# Altium footprint library WS-DESV.PcbLib: 1 footprints
Each footprint in its own frame and in the unit in brackets; x right, y up, seen from the top. Pads: shape width x height; smd on the part's side, far side on the other; paste and mask are expansions set on the pad; w line width, h text height; cw(c..) or ccw(c..) is an arc to the next point about the centre after c.
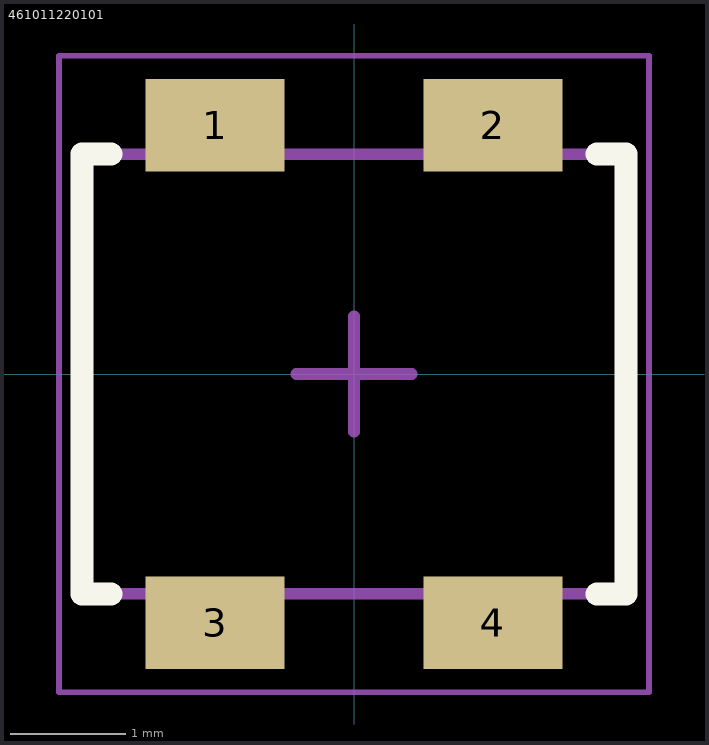
[diagram p0: the footprint, top view; thin cyan lines are the x and y axes]

## 461011220101 [mm] "4.7x3.8 mm SMD Detector Switch"
height 3.8
pads (4):
  rect 1.2x0.8 smd: 1(-1.2,2.15) 2(1.2,2.15) 3(-1.2,-2.15) 4(1.2,-2.15)
Top Overlay:
  lines w0.2: -2.1,-1.9 -2.35,-1.9 -2.35,1.9 -2.1,1.9 ; 2.1,-1.9 2.35,-1.9 2.35,1.9 2.1,1.9
Top Assembly:
  lines w0.1: -2.35,-1.9 2.35,-1.9 2.35,1.9 -2.35,1.9 -2.35,-1.9
Top Designator:
  text ".Designator" at -3.647,-0.357 h1
Top Courtyard:
  lines w0.05: -2.55,-2.75 2.55,-2.75 2.55,2.75 -2.55,2.75 -2.55,-2.75
Top Component Center:
  lines w0.1: -0.5,0 0.5,0 ; 0,-0.5 0,0.5
3D body "461011220101.stp": height 3.8, standoff 0, extent -2.45,-2.35 2.45,2.35